# EAGLE library part ISP_HEADER_3X2 (library SophiEaglev9)
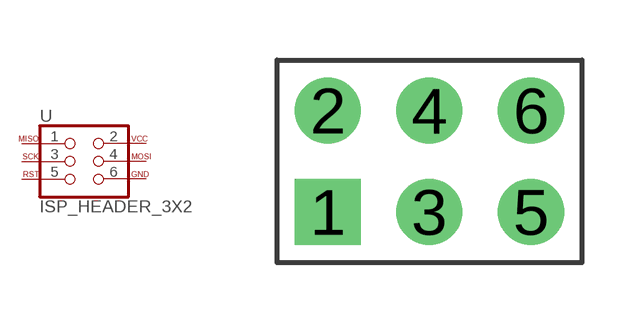
[diagram p13: symbol with the pads of ISP_HEADER_3X2; footprint ISP_HEADER_3X2]

Designator prefix -

## ISP_HEADER_3X2  [ISP_HEADER_3X2]
1  1  pas
2  2  pas
3  3  pas
4  4  pas
5  5  pas
6  6  pas

## Footprint ISP_HEADER_3X2 (pad centres in mm)
drill 0.889 pad 1.651 square: 1 1.27,1.27
drill 0.889 pad 1.651: 2 1.27,3.81; 3 3.81,1.27; 4 3.81,3.81; 5 6.35,1.27; 6 6.35,3.81